# Altium schematic symbol library ti-interface.SchLib: 3 symbols
Pins are listed as number, name and electrical type; pins without a type are passive.

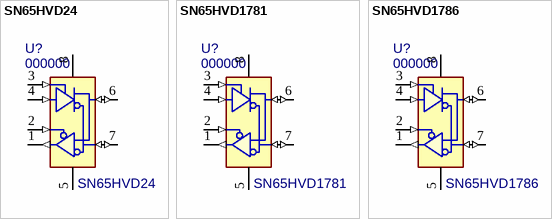
[diagram p0: symbols SN65HVD24 to SN65HVD1786]

## SN65HVD24
designator U?, comment 000000  value SN65HVD24
RS-485 Transceiver, 3Mbps; MF: Texas Instruments; MF PN: SN65HVD24DR; PN: 000000; Package: SOIC-8; ExtraInfo: *; Digi-Key PN: 296-41391-1-ND
footprint D (R-PDSO-G8) (Plastic Small Outline 8)
pins: 1 R (out), 2 ~{RE} (in), 3 DE (in), 4 D (in), 5 GND (power), 6 A (io), 7 B (io), 8 VCC (power)

## SN65HVD1781
designator U?, comment 000000  value SN65HVD1781
RS-485 Transceiver, 1Mbps; MF: Texas Instruments; PN: 000000; Package: SOIC-8; ExtraInfo: *; Digi-Key PN: 296-23118-1-ND; Price: 2.97461
footprint D (R-PDSO-G8) (Plastic Small Outline 8)
pins: 1 R (out), 2 ~{RE} (in), 3 DE (in), 4 D (in), 5 GND (power), 6 A (io), 7 B (io), 8 VCC (power)

## SN65HVD1786
designator U?, comment 000000  value SN65HVD1786
RS-485 Transceiver, 1Mbps, Extended CMM; MF: Texas Instruments; PN: 000000; Package: SOIC-8; ExtraInfo: *; Digi-Key PN: SN65HVD1786; Price: 2.33147
footprint D (R-PDSO-G8) (Plastic Small Outline 8)
pins: 1 R (out), 2 ~{RE} (in), 3 DE (in), 4 D (in), 5 GND (power), 6 A (io), 7 B (io), 8 VCC (power)